# Altium footprint library HardWare.PcbLib: 173 footprints (part 4 of 11)
Each footprint in its own frame and in the unit in brackets; x right, y up, seen from the top. Pads: shape width x height; smd on the part's side, far side on the other; paste and mask are expansions set on the pad; w line width, h text height; cw(c..) or ccw(c..) is an arc to the next point about the centre after c.
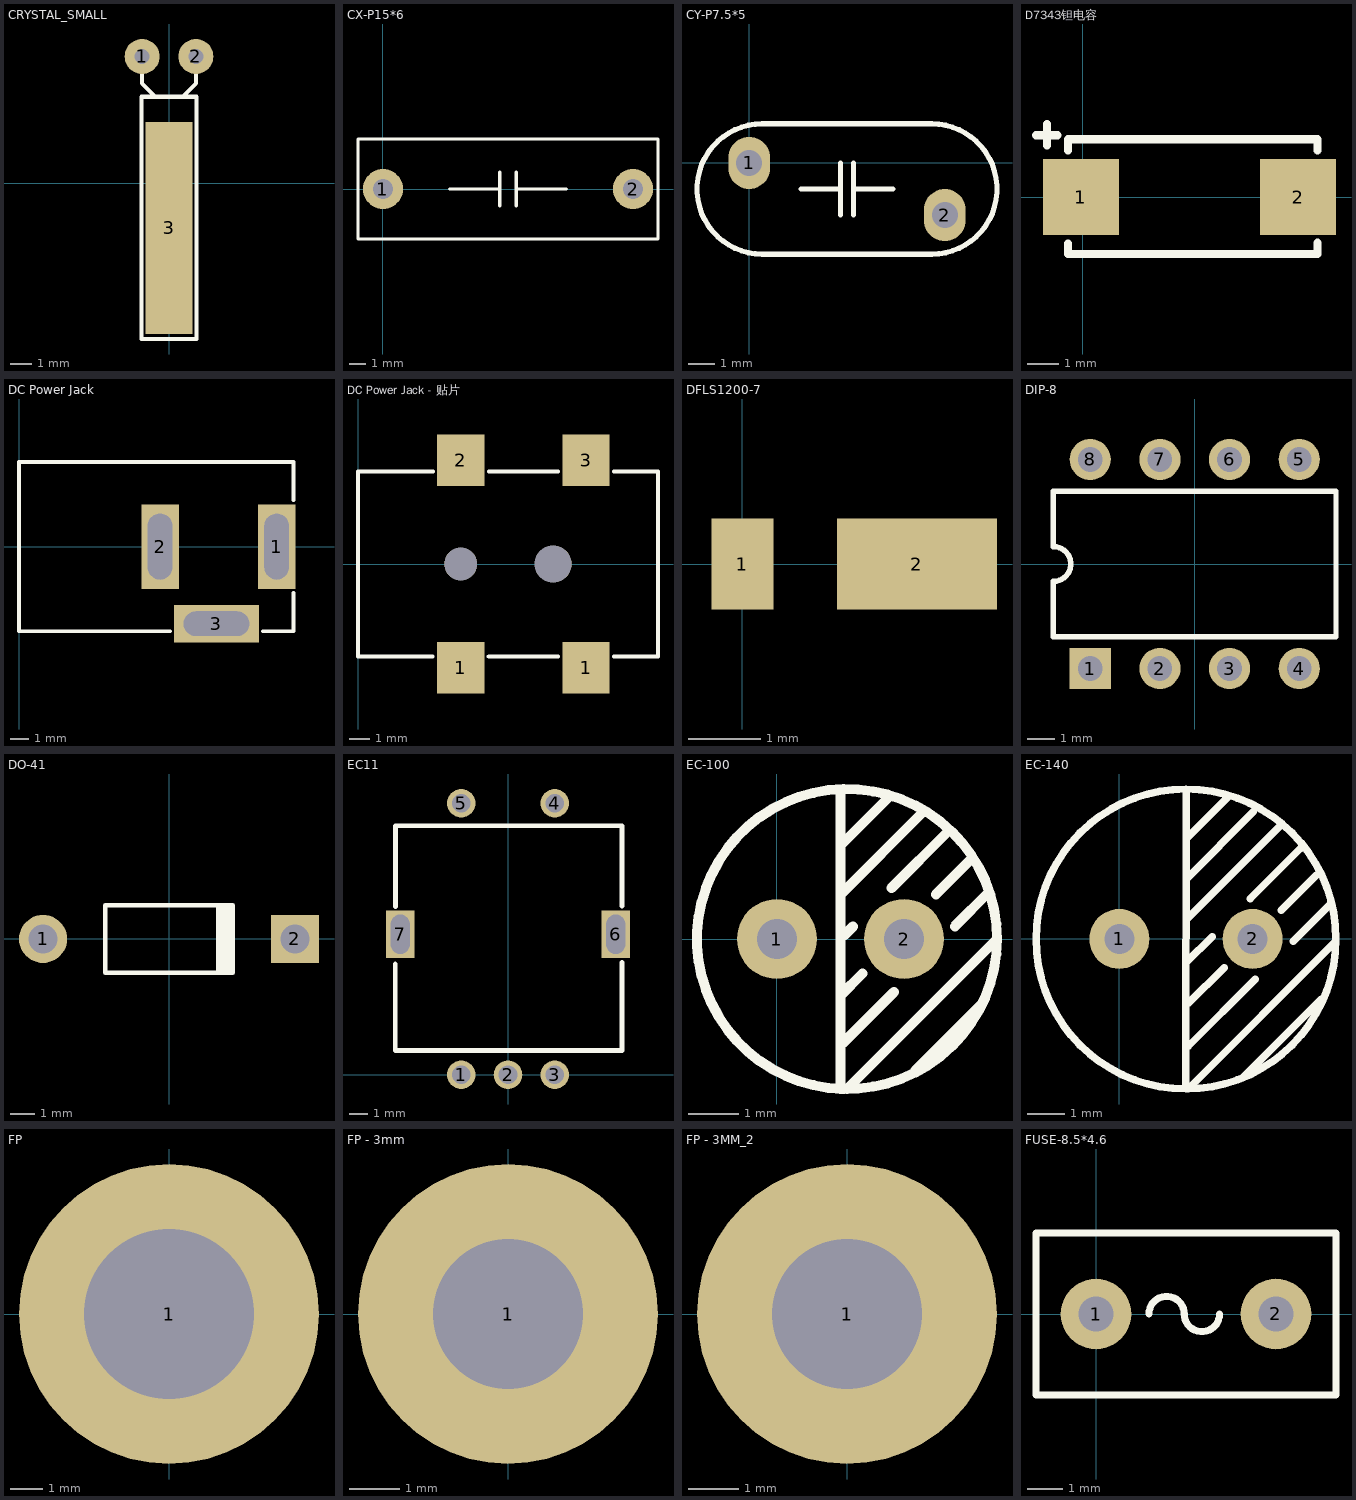
[diagram p3: the footprints below, top view; thin cyan lines are the x and y axes]

## CRYSTAL_SMALL [mil] "?"
height 70.87
pads (3):
  round 65 hole 27.56: 1(-50,236) 2(50,236)
  rect 86.61x393.7 smd: 3(0,-82.68)
Top Overlay:
  lines w8: -50,211 -50,186 -25,161 ; 25,161 50,186 50,211 ; -51.18,-289 -51.18,161 51.18,161 51.18,-289 -51.18,-289

## CX-P15*6 [mm]
height 1.75
pads (2):
  round 2.4 hole 1.2: 1(0,0) 2(15,0)
Top Overlay:
  lines w0.2: 4,0 7,0 ; 7,-1 7,1 ; 8,-1 8,1 ; 8,0 11,0 ; -1.5,-3 16.5,-3 16.5,3 -1.5,3 -1.5,-3

## CY-P7.5*5 [mm] "CY?"
height 1.75
pads (2):
  oval 1.6x2 hole 1: 1(0,0) 2(7.5,-2)
Top Overlay:
  lines w0.2: 2,-1 3.5,-1 ; 3.5,-2 3.5,0 ; 4,-2 4,0 ; 4,-1 5.5,-1 ; 0.5,-3.5 cw(c0.5,-1) 0.5,1.5 7,1.5 cw(c7,-1) 7,-3.5 0.5,-3.5

## D7343钽电容 [mm] "300uf"
height 2.9
pads (2):
  rect 2.4x2.4 smd: 1(-0.051,0) 2(6.824,0)
Top Overlay:
  lines w0.254: -1.473,1.956 -0.787,1.956 ; -1.118,1.626 -1.118,2.311 ; -0.457,-1.473 -0.457,-1.803 7.442,-1.803 7.442,-1.448 ; -0.457,1.473 -0.457,1.829 7.442,1.829 7.442,1.473

## DC Power Jack [mm] "DC Power Jack, 2.5mm, KLD Series, PCB Mount"
height 11
pads (3):
  rect 2x4.5 hole 1.3 slot 3.5 at 90 deg: 1(13.7,0) 2(7.5,0)
  rect 4.5x2 hole 1.3 slot 3.5 at 0 deg: 3(10.5,-4.1)
Top Overlay:
  lines w0.2: 8.026,-4.5 0,-4.5 0,4.5 14.6,4.5 14.6,2.464 ; 12.979,-4.5 14.6,-4.5 14.6,-2.464
Mechanical 1:
  text "Alert PCB fab to slot details" at 0.286,6.066 h0.3
  text "Assign keep-out area to slot" at 0.286,6.566 h0.3
  text "Mech 1 - Slot cut-out" at 0.286,5.566 h0.3
  text "Mech 2 - Clearance, move to internal plane if present" at 0.286,5.066 h0.3

## DC Power Jack - 贴片 [mm]
height 11
pads (6):
  rect 2.3x2.5 smd: 1(5,-5.044) 1(11.1,-5.044) 2(5,5.044) 3(11.1,5.044)
  round 1.59 hole 1.6: ""(5,0)
  round 1.79 hole 1.8: ""(9.5,0)
Top Overlay:
  lines w0.2: 3.631,-4.5 0,-4.5 0,4.5 3.646,4.5 ; 6.365,-4.5 8.026,-4.5 9.733,-4.5 ; 6.368,4.5 9.736,4.5 ; 12.455,-4.5 14.6,-4.5 14.6,2.54 ; 12.464,4.5 14.6,4.5 14.6,2.464
Mechanical 1:
  text "Mech 2 - Clearance, move to internal plane if present" at 0.286,5.066 h0.3
  text "Mech 1 - Slot cut-out" at 0.286,5.566 h0.3
  text "Assign keep-out area to slot" at 0.286,6.566 h0.3
  text "Alert PCB fab to slot details" at 0.286,6.066 h0.3

## DFLS1200-7 [mm]
pads (2):
  rect 0.85x1.25 smd: 1(0,0)
  rect 2.2x1.25 smd: 2(2.4,0)

## DIP-8 [mm] "DIP; 8 Leads; Row Spacing 7.62 mm; Pitch 2.54 mm"
height 5.08
pads (8):
  rect 1.5x1.5 hole 0.9: 1(-3.81,-3.81)
  round 1.5 hole 0.9: 2(-1.27,-3.81) 3(1.27,-3.81) 4(3.81,-3.81) 5(3.81,3.81) 6(1.27,3.81) 7(-1.27,3.81) 8(-3.81,3.81)
Top Overlay:
  lines w0.2: -5.15,-2.65 -5.15,-0.635 ccw(c-5.15,0) -5.15,0.635 -5.15,2.65 5.15,2.65 5.15,-2.65 -5.15,-2.65

## DO-41 [mm] "Diode, Axial; Body 5.2 x 2.7 mm (LxDia. max), Lead Dia. 0.86 mm (max)"
height 2.8
pads (2):
  round 2 hole 1.2: 1(-5.23,0)
  rect 2x2 hole 1.2: 2(5.23,0)
Top Overlay:
  rectangle: 1.95,-1.404 2.75,1.396
  lines w0.2: 2.65,-1.4 -2.65,-1.4 -2.65,1.4 2.65,1.4

## EC11 [mm]
pads (7):
  round 1.524 hole 1: 1(-2.5,0) 2(0,0) 3(2.5,0) 4(2.5,14.5) 5(-2.5,14.5)
  rect 1.5x2.524 hole 1 slot 2.1 at 90 deg: 6(5.755,7.5) 7(-5.755,7.5)
Top Overlay:
  lines w0.254: -6.02,5.918 -6.02,4.31 -6.02,1.296 6.087,1.296 ; -6.013,8.992 -6.013,10.298 -6.013,13.295 6.087,13.295 6.087,9.001 ; 6.087,1.3 6.087,4.299 6.087,5.994

## EC-100 [mm]
pads (2):
  round 1.6 hole 0.8: 1(0,0) 2(2.54,0)
Top Overlay:
  circle w0.2: c1.4,0 r3
  lines w0.2: 1.27,-3 1.273,2.946 ; 1.273,-1.127 1.708,-0.692 ; 1.273,0.889 2.922,2.538 ; 1.289,1.889 2.24,2.84 ; 1.315,-2.085 2.335,-1.065 ; 1.343,0.073 1.524,0.254 ; 1.4,-3 4.4,0 ; 2.286,1.016 3.429,2.159 ; 2.763,-2.636 4.097,-1.303 ; 3.175,0.889 3.905,1.619 ; 3.556,0.254 4.24,0.938

## EC-140 [mm]
height 1.75
pads (2):
  round 1.6 hole 0.8: 1(0,0) 2(3.556,0)
Top Overlay:
  circle w0.2: c1.778,0 r4
  lines w0.2: 1.778,-3.937 1.781,3.937 ; 1.78,1.593 3.576,3.388 ; 1.787,-0.626 2.476,0.064 ; 1.801,2.69 2.921,3.81 ; 1.824,0.554 4.318,3.048 ; 1.838,-1.718 2.794,-0.762 ; 1.841,-4.001 5.764,-0.078 ; 1.845,-2.854 3.619,-1.079 ; 3.302,-3.683 5.383,-1.602 ; 3.492,1.079 4.826,2.413 ; 4.318,0.762 5.256,1.7 ; 4.635,-0.064 5.637,0.938

## FP [mm]
pads (1):
  round 9.2 hole 5.2: 1(0,0)

## FP - 3mm [mm]
pads (1):
  round 6 hole 3: 1(0,0)

## FP - 3MM_2 [mm]
pads (1):
  round 6 hole 3: 1(0,0)

## FUSE-8.5*4.6 [mm]
height 1.75
pads (2):
  round 2 hole 1: 1(0,0) 2(5.1,0)
Top Overlay:
  lines w0.2: 1.5,0 cw(c2,0) 2.5,0 ; 2.5,0 ccw(c3,0) 3.5,0 ; -1.7,-2.3 6.8,-2.3 6.8,2.3 -1.7,2.3 -1.7,-2.3